# Altium footprint library SOT-666.PcbLib: 1 footprints
Each footprint in its own frame and in the unit in brackets; x right, y up, seen from the top. Pads: shape width x height; smd on the part's side, far side on the other; paste and mask are expansions set on the pad; w line width, h text height; cw(c..) or ccw(c..) is an arc to the next point about the centre after c.
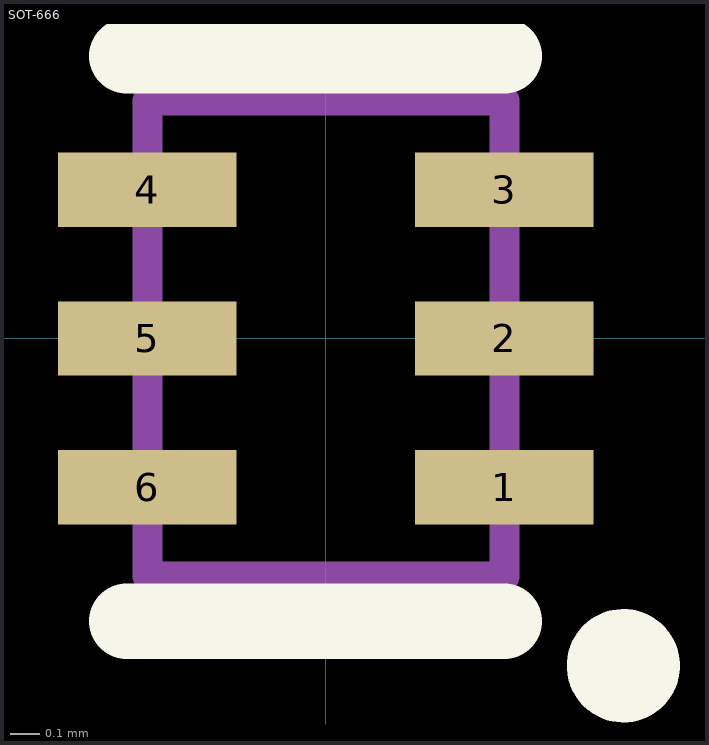
[diagram p0: the footprint, top view; thin cyan lines are the x and y axes]

## SOT-666 [mm]
pads (6):
  rect 0.6x0.25 smd mask+0.051: 1(0.6,-0.5) 2(0.6,0) 3(0.6,0.5) 4(-0.6,0.5) 5(-0.6,0) 6(-0.6,-0.5)
Top Overlay:
  circle w0.203: c1,-1.1 r0.089
  lines w0.254: -0.67,-0.95 0.6,-0.95 ; -0.67,0.95 0.6,0.95
Mechanical 13:
  lines w0.1: -0.6,-0.8 0.6,-0.8 0.6,0.8 -0.6,0.8 -0.6,-0.8